# Altium footprint library common.PcbLib: 92 footprints (part 5 of 6)
Each footprint in its own frame and in the unit in brackets; x right, y up, seen from the top. Pads: shape width x height; smd on the part's side, far side on the other; paste and mask are expansions set on the pad; w line width, h text height; cw(c..) or ccw(c..) is an arc to the next point about the centre after c.
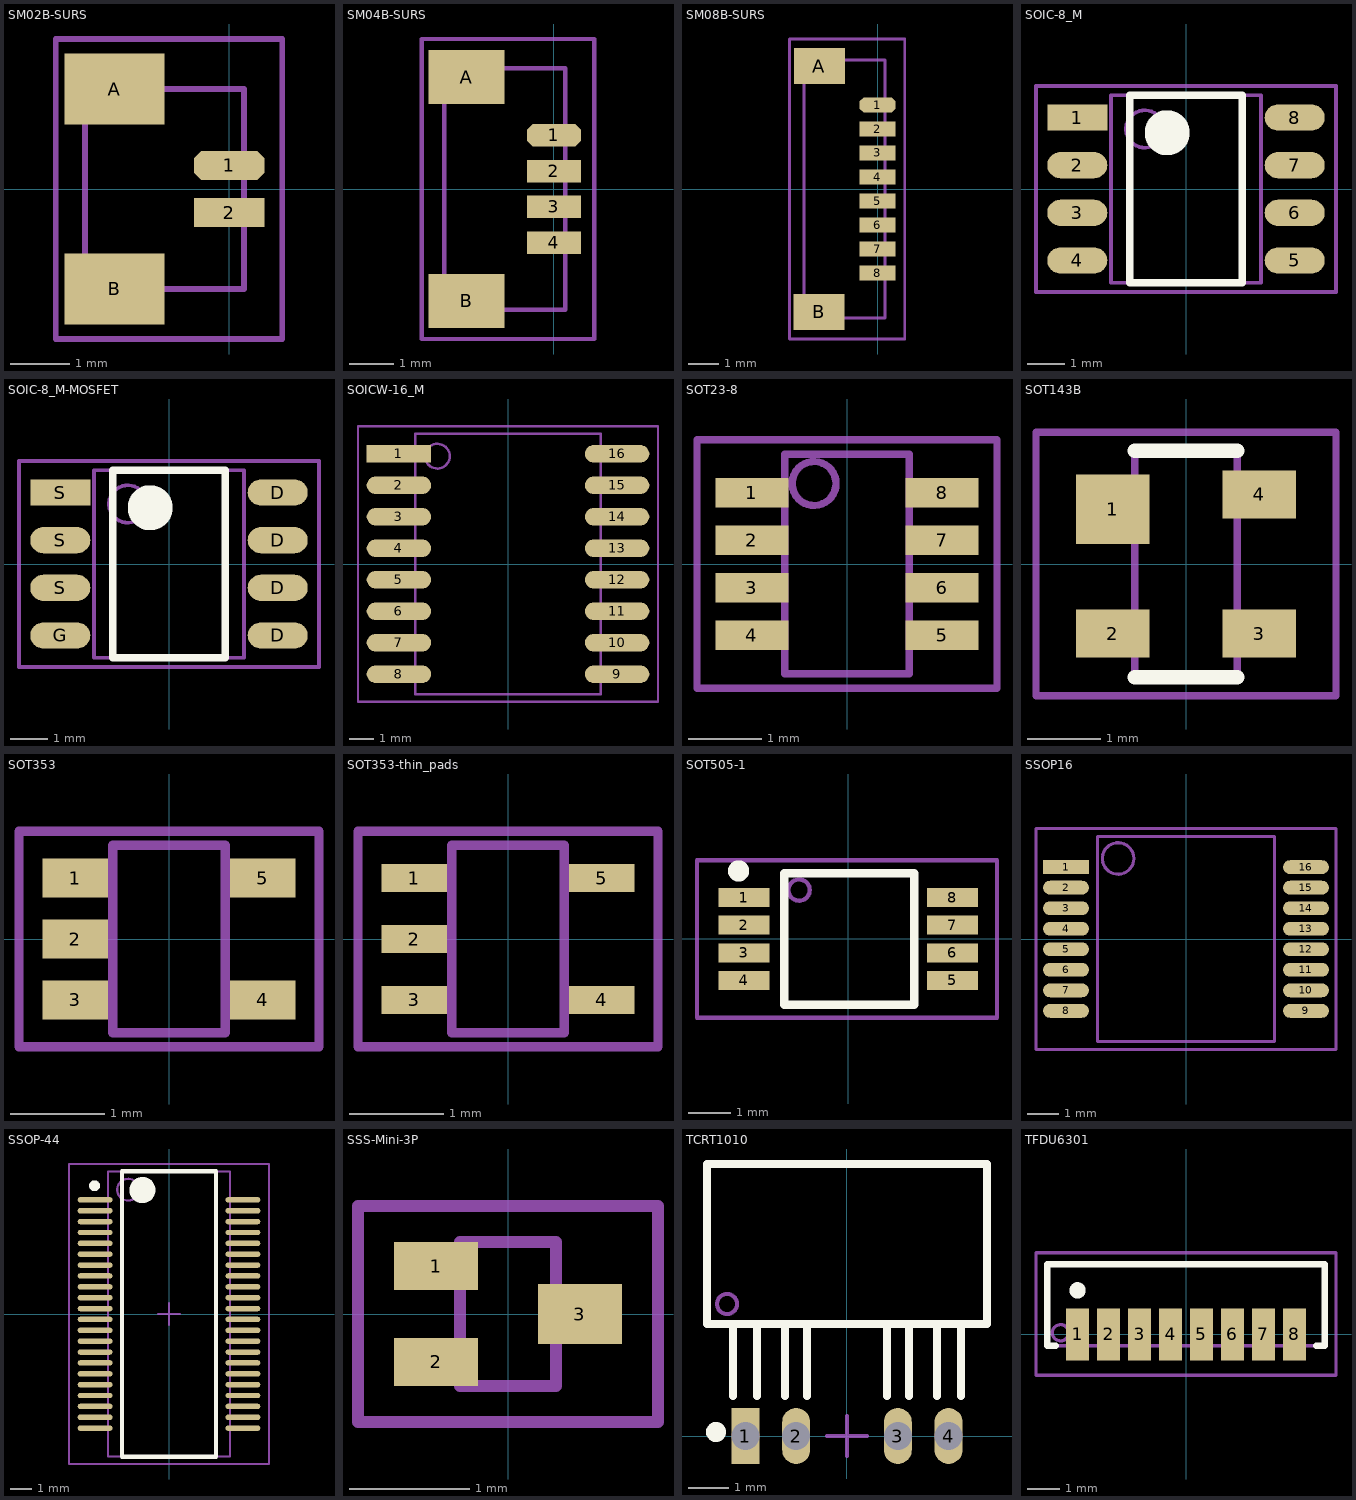
[diagram p4: the footprints below, top view; thin cyan lines are the x and y axes]

## SM02B-SURS [mm] "Wire-to-board connector, 2 pins, Body 3.8x2.7mm, Pitch 0.8mm, IPC Low Density"
height 1.7
pads (4):
  oct 1.2x0.5 smd: 1(0,0.4)
  rect 1.2x0.5 smd: 2(0,-0.4)
  rect 1.7x1.2 smd: A(-1.95,1.7) B(-1.95,-1.7)
Mechanical 13:
  lines w0.1: -2.45,-1.7 0.25,-1.7 0.25,1.7 -2.45,1.7 -2.45,-1.7
Mechanical 15:
  lines w0.1: -2.95,-2.55 0.9,-2.55 0.9,2.55 -2.95,2.55 -2.95,-2.55
3D body: height 1.7, standoff 0, extent -2.45,-1.7 0.25,1.7

## SM04B-SURS [mm] "Wire-to-board connector, 4 pins, Body 5.4x2.7mm, Pitch 0.8mm, IPC Low Density"
height 1.7
pads (6):
  oct 1.2x0.5 smd: 1(0,1.2)
  rect 1.2x0.5 smd: 2(0,0.4) 3(0,-0.4) 4(0,-1.2)
  rect 1.7x1.2 smd: A(-1.95,2.5) B(-1.95,-2.5)
Mechanical 13:
  lines w0.1: -2.45,-2.7 0.25,-2.7 0.25,2.7 -2.45,2.7 -2.45,-2.7
Mechanical 15:
  lines w0.1: -2.95,-3.35 0.9,-3.35 0.9,3.35 -2.95,3.35 -2.95,-3.35
3D body: height 1.7, standoff 0, extent -2.45,-2.7 0.25,2.7

## SM08B-SURS [mm] "Wire-to-board connector, 8 pins, Body 8.6x2.7mm, Pitch 0.8mm, IPC Low Density"
height 1.7
pads (10):
  oct 1.2x0.5 smd: 1(0,2.8)
  rect 1.2x0.5 smd: 2(0,2) 3(0,1.2) 4(0,0.4) 5(0,-0.4) 6(0,-1.2) 7(0,-2) 8(0,-2.8)
  rect 1.7x1.2 smd: A(-1.95,4.1) B(-1.95,-4.1)
Mechanical 13:
  lines w0.1: -2.45,-4.3 0.25,-4.3 0.25,4.3 -2.45,4.3 -2.45,-4.3
Mechanical 15:
  lines w0.1: -2.95,-5 0.9,-5 0.9,5 -2.95,5 -2.95,-5
3D body: height 1.7, standoff 0, extent -2.45,-4.3 0.25,4.3

## SOIC-8_M [mm] "SOIC, 8-Leads, Body 4.9x3.9mm, Pitch 1.27mm, IPC Low Density"
height 1.73
pads (8):
  rect 1.6x0.7 smd: 1(-2.9,1.905)
  oval 1.6x0.7 smd: 2(-2.9,0.635) 3(-2.9,-0.635) 4(-2.9,-1.905) 5(2.9,-1.905) 6(2.9,-0.635) 7(2.9,0.635) 8(2.9,1.905)
Top Overlay:
  circle w0.6: c-0.5,1.5 r0.3
  lines w0.2: -1.5,-2.5 -1.5,2.5 1.5,2.5 1.5,-2.5 -1.5,-2.5
Mechanical 13:
  circle w0.1: c-1.1,1.6 r0.5
  lines w0.1: -2,-2.5 -2,2.5 2,2.5 2,-2.5 -2,-2.5
Mechanical 15:
  lines w0.1: -4,-2.75 -4,2.75 4,2.75 4,-2.75 -4,-2.75
3D body: height 1.73, standoff 0, extent -2,-2.5 2,2.5

## SOIC-8_M-MOSFET [mm] "SOIC, 8-Leads, Body 4.9x3.9mm, Pitch 1.27mm, IPC Low Density"
height 1.73
pads (8):
  oval 1.6x0.7 smd: D(2.9,-1.905) D(2.9,-0.635) D(2.9,0.635) D(2.9,1.905) G(-2.9,-1.905) S(-2.9,-0.635) S(-2.9,0.635)
  rect 1.6x0.7 smd: S(-2.9,1.905)
Top Overlay:
  circle w0.6: c-0.5,1.5 r0.3
  lines w0.2: -1.5,-2.5 -1.5,2.5 1.5,2.5 1.5,-2.5 -1.5,-2.5
Mechanical 13:
  circle w0.1: c-1.1,1.6 r0.5
  lines w0.1: -2,-2.5 -2,2.5 2,2.5 2,-2.5 -2,-2.5
Mechanical 15:
  lines w0.1: -4,-2.75 -4,2.75 4,2.75 4,-2.75 -4,-2.75
3D body: height 1.73, standoff 0, extent -2,-2.5 2,2.5

## SOICW-16_M [mm] "16-Pin Wide Body Small Outline Integrated Circuit 1.27 mm Pitch, IPC Low Density"
height 2.65
pads (16):
  rect 2.6x0.7 smd: 1(-4.4,4.445)
  oval 2.6x0.7 smd: 2(-4.4,3.175) 3(-4.4,1.905) 4(-4.4,0.635) 5(-4.4,-0.635) 6(-4.4,-1.905) 7(-4.4,-3.175) 8(-4.4,-4.445) 9(4.4,-4.445) 10(4.4,-3.175) 11(4.4,-1.905) 12(4.4,-0.635) 13(4.4,0.635) 14(4.4,1.905) 15(4.4,3.175) 16(4.4,4.445)
Mechanical 13:
  circle w0.1: c-2.85,4.35 r0.5
  lines w0.1: -3.75,-5.25 3.75,-5.25 3.75,5.25 -3.75,5.25 -3.75,-5.25
Mechanical 15:
  lines w0.1: -6.05,-5.55 6.05,-5.55 6.05,5.55 -6.05,5.55 -6.05,-5.55
3D body: height 2.65, standoff 0, extent -3.75,-5.25 3.75,5.25

## SOT23-8 [mm] "8-Pin Small Outline Transistor Package, Body 2.9x2.8mm, IPC Low Density"
height 1.45
pads (8):
  rect 1x0.4 smd: 1(-1.3,0.975) 2(-1.3,0.325) 3(-1.3,-0.325) 4(-1.3,-0.975) 5(1.3,-0.975) 6(1.3,-0.325) 7(1.3,0.325) 8(1.3,0.975)
Mechanical 13:
  circle w0.1: c-0.45,1.1 r0.3
  lines w0.1: -0.85,-1.5 -0.85,1.5 0.85,1.5 0.85,-1.5 -0.85,-1.5
Mechanical 15:
  lines w0.1: -2.05,-1.7 -2.05,1.7 2.05,1.7 2.05,-1.7 -2.05,-1.7
3D body: height 1.45, standoff 0, extent -0.85,-1.5 0.85,1.5

## SOT143B [mm] "4-Pin Transistor Package, Body 3.0x2.5mm, IPC Low Density"
height 1.1
pads (4):
  rect 1x0.95 smd: 1(-1,0.75)
  rect 1x0.65 smd: 2(-1,-0.95) 3(1,-0.95) 4(1,0.95)
Top Overlay:
  lines w0.2: -0.7,-1.55 0.7,-1.55 ; -0.7,1.55 0.7,1.55
Mechanical 13:
  lines w0.1: -0.7,-1.5 -0.7,1.5 0.7,1.5 0.7,-1.5 -0.7,-1.5
Mechanical 15:
  lines w0.1: -2.05,-1.8 -2.05,1.8 2.05,1.8 2.05,-1.8 -2.05,-1.8
3D body: height 1.1, standoff 0, extent -0.7,-1.5 0.7,1.5

## SOT353 [mm] "5-Pin Transistor Package, Body 2.0x1.2mm, IPC Low Density"
height 1.1
pads (5):
  rect 0.7x0.42 smd: 1(-1,0.65) 2(-1,0) 3(-1,-0.65) 4(1,-0.65) 5(1,0.65)
Mechanical 13:
  lines w0.1: -0.6,-1 0.6,-1 0.6,1 -0.6,1 -0.6,-1
Mechanical 15:
  lines w0.1: -1.6,-1.15 1.6,-1.15 1.6,1.15 -1.6,1.15 -1.6,-1.15
3D body: height 1.1, standoff 0, extent -0.6,-1 0.6,1

## SOT353-thin_pads [mm] "5-Pin Transistor Package, Body 2.0x1.2mm, IPC Low Density"
height 1.1
pads (5):
  rect 0.7x0.3 smd: 1(-1,0.65) 2(-1,0) 3(-1,-0.65) 4(1,-0.65) 5(1,0.65)
Mechanical 13:
  lines w0.1: -0.6,-1 0.6,-1 0.6,1 -0.6,1 -0.6,-1
Mechanical 15:
  lines w0.1: -1.6,-1.15 1.6,-1.15 1.6,1.15 -1.6,1.15 -1.6,-1.15
3D body: height 1.1, standoff 0, extent -0.6,-1 0.6,1

## SOT505-1 [mm] "Small Outline Package, Body 3.0x3.0mm, Pitch 0.65mm, IPC Low Density"
height 1.1
pads (8):
  rect 1.2x0.45 smd: 1(-2.45,0.975) 2(-2.45,0.325) 3(-2.45,-0.325) 4(-2.45,-0.975) 5(2.45,-0.975) 6(2.45,-0.325) 7(2.45,0.325) 8(2.45,0.975)
Top Overlay:
  circle w0.25: c-2.575,1.6 r0.125
  lines w0.2: -1.5,-1.55 1.55,-1.55 1.55,1.55 -1.5,1.55 -1.5,-1.55
Mechanical 13:
  circle w0.1: c-1.15,1.15 r0.25
  lines w0.1: -1.5,-1.55 1.55,-1.55 1.55,1.55 -1.5,1.55 -1.5,-1.55
Mechanical 15:
  lines w0.1: -3.55,-1.85 3.5,-1.85 3.5,1.85 -3.55,1.85 -3.55,-1.85
3D body: height 1.1, standoff 0, extent -1.5,-1.55 1.55,1.55

## SSOP16 [mm] "16-Pin Shrink Small-Outline Package, Body 7.8x6.2mm, 0.65 mm Pitch, IPC Medium Density"
height 2
pads (16):
  rect 1.45x0.44 smd: 1(-3.8,2.275)
  oval 1.45x0.44 smd: 2(-3.8,1.625) 3(-3.8,0.975) 4(-3.8,0.325) 5(-3.8,-0.325) 6(-3.8,-0.975) 7(-3.8,-1.625) 8(-3.8,-2.275) 9(3.8,-2.275) 10(3.8,-1.625) 11(3.8,-0.975) 12(3.8,-0.325) 13(3.8,0.325) 14(3.8,0.975) 15(3.8,1.625) 16(3.8,2.275)
Mechanical 13:
  circle w0.1: c-2.15,2.55 r0.5
  lines w0.1: -2.8,-3.25 2.8,-3.25 2.8,3.25 -2.8,3.25 -2.8,-3.25
Mechanical 15:
  lines w0.1: -4.75,-3.5 4.75,-3.5 4.75,3.5 -4.75,3.5 -4.75,-3.5
3D body: height 2, standoff 0, extent -2.8,-3.25 2.8,3.25

## SSOP-44 [mm] "SSOP, 44-Leads, Body 13.1x5.6mm, Pitch 0.5mm, IPC Low Density"
height 1.2
pads (44):
  oval 1.6x0.25 smd: 1(-3.4,5.25) 2(-3.4,4.75) 3(-3.4,4.25) 4(-3.4,3.75) 5(-3.4,3.25) 6(-3.4,2.75) 7(-3.4,2.25) 8(-3.4,1.75) 9(-3.4,1.25) 10(-3.4,0.75) 11(-3.4,0.25) 12(-3.4,-0.25) 13(-3.4,-0.75) 14(-3.4,-1.25) 15(-3.4,-1.75) 16(-3.4,-2.25) 17(-3.4,-2.75) 18(-3.4,-3.25) 19(-3.4,-3.75) 20(-3.4,-4.25) 21(-3.4,-4.75) 22(-3.4,-5.25) 23(3.4,-5.25) 24(3.4,-4.75) 25(3.4,-4.25) 26(3.4,-3.75) 27(3.4,-3.25) 28(3.4,-2.75) 29(3.4,-2.25) 30(3.4,-1.75) 31(3.4,-1.25) 32(3.4,-0.75) 33(3.4,-0.25) 34(3.4,0.25) 35(3.4,0.75) 36(3.4,1.25) 37(3.4,1.75) 38(3.4,2.25) 39(3.4,2.75) 40(3.4,3.25) 41(3.4,3.75) 42(3.4,4.25) 43(3.4,4.75) 44(3.4,5.25)
Top Overlay:
  circle w0.25: c-3.425,5.9 r0.125
  circle w0.6: c-1.22,5.7 r0.3
  lines w0.2: -2.16,-6.56 -2.16,6.56 2.16,6.56 2.16,-6.56 -2.16,-6.56
Mechanical 13:
  circle w0.1: c-1.88,5.72 r0.5
  lines w0.1: -2.8,-6.56 -2.8,6.56 2.8,6.56 2.8,-6.56 -2.8,-6.56
Mechanical 15:
  lines w0.1: -0.5,0 0.5,0 ; 0,-0.5 0,0.5 ; -4.6,-6.9 -4.6,6.9 4.6,6.9 4.6,-6.9 -4.6,-6.9
3D body: height 1.2, standoff 0, extent -2.8,-6.56 2.8,6.56

## SSS-Mini-3P [mm] "3-Pin Transistor Package, Body 1.2x0.8mm, IPC Low Density"
height 0.51
pads (3):
  rect 0.7x0.4 smd: 1(-0.6,0.4) 2(-0.6,-0.4)
  rect 0.7x0.5 smd: 3(0.6,0)
Mechanical 13:
  lines w0.1: -0.4,-0.6 0.4,-0.6 0.4,0.6 -0.4,0.6 -0.4,-0.6
Mechanical 15:
  lines w0.1: -1.25,-0.9 1.25,-0.9 1.25,0.9 -1.25,0.9 -1.25,-0.9
3D body: height 0.51, standoff 0, extent -0.4,-0.6 0.4,0.6

## TCRT1010 [mm] "Body 7.0x4.0mm, Pitch 1.27mm"
height 2.5
pads (4):
  rect 0.7x1.4 hole 0.7: 1(-2.54,0)
  oval 0.7x1.4 hole 0.7: 2(-1.27,0) 3(1.27,0) 4(2.54,0)
Top Overlay:
  circle w0.25: c-3.275,0.1 r0.125
  lines w0.2: -2.85,1 -2.85,2.8 -2.25,2.8 -2.25,1 ; -1.55,1 -1.55,2.8 -1,2.8 -1,1 ; 1,1 1,2.8 1.55,2.8 1.55,1 ; 2.25,1 2.25,2.8 2.8,2.8 2.85,2.75 2.85,1 ; -3.5,2.8 3.5,2.8 3.5,6.8 -3.5,6.8 -3.5,2.8
Mechanical 13:
  circle w0.1: c-3,3.3 r0.25
  lines w0.1: -3.5,2.8 -3.5,6.8 3.5,6.8 3.5,2.8 -3.5,2.8
Mechanical 15:
  lines w0.1: -0.5,0 0.5,0 ; 0,-0.5 0,0.5
3D body: height 2.5, standoff 0, extent -3.5,2.8 3.5,6.8
3D body: height 1.2, standoff 0.9, extent -2.84,-0.155 -2.24,2.795
3D body: height 1.2, standoff 0.9, extent -1.57,-0.175 -0.97,2.775
3D body: height 1.2, standoff 0.9, extent 0.97,-0.145 1.57,2.805
3D body: height 1.2, standoff 0.9, extent 2.25,-0.175 2.85,2.775
3D body: height 1.2, standoff 0, extent 0.97,-0.15 1.57,0.15
3D body: height 1.2, standoff 0, extent 2.24,-0.15 2.84,0.15
3D body: height 1.2, standoff 0, extent -1.57,-0.15 -0.97,0.15
3D body: height 1.2, standoff 0, extent -2.84,-0.15 -2.24,0.15

## TFDU6301 [mm] "IRDA package, Body 8.5x2.5mm, Pitch 0.95mm, IPC Low Density"
height 3.1
pads (8):
  rect 0.7x1.6 smd: 1(-3.325,0) 2(-2.375,0) 3(-1.425,0) 4(-0.475,0) 5(0.475,0) 6(1.425,0) 7(2.375,0) 8(3.325,0)
Top Overlay:
  circle w0.25: c-3.325,1.35 r0.125
  lines w0.2: -4,-0.35 -4.25,-0.35 -4.25,2.15 4.25,2.15 4.25,-0.35 4,-0.35
Mechanical 13:
  circle w0.1: c-3.85,0.05 r0.25
  lines w0.1: -4.25,-0.35 -4.25,2.15 4.25,2.15 4.25,-0.35 -4.25,-0.35
Mechanical 15:
  lines w0.1: -4.6,-1.25 -4.6,2.5 4.6,2.5 4.6,-1.25 -4.6,-1.25
3D body: height 1.9, standoff 0, extent -4.25,-0.35 4.25,2.15
3D body: height 3.1, standoff 0.9, extent 1.906,-0.191 4.094,2
3D body: height 2.85, standoff 0.65, extent -4.094,-0.191 -1.906,2